# Altium integrated library FTSH-105-XX-X-DV_2.0.IntLib: 1 symbol
Pins are listed as number, name and electrical type; pins without a type are passive.

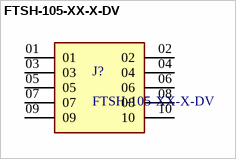
[diagram p0: symbol FTSH-105-XX-X-DV]

## FTSH-105-XX-X-DV
designator J?
Connector Header Surface Mount 10 position 0.050" (1.27mm); Availability: Unavailable; Package: None; MP: FTSH-105-XX-X-DV; Price: None; Value: *
footprint SAMTEC_FTSH-105-XX-X-DV
pins: 01, 02, 03, 04, 05, 06, 07, 08, 09, 10